# Altium integrated library Altium_WE-MAIA (rev24b).IntLib: 166 symbols (part 4 of 4)
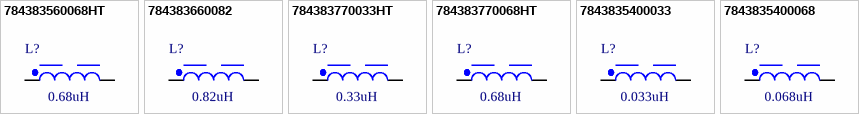
[diagram p7: symbols 784383560068HT to 7843835400068]

## 7843835400033
designator L?, comment 0.033uH
WE-MAIA SMT Power Inductor, size 4012, 0.033uH, 33.5A, 1.1mOhm; Manufacturer Part Number: 7843835400033; Manufacturer: Wurth Elektronik; Case/Size Code: 4012; Saturation Current @ 10%: 19A; Saturation Current @ 30%: 40A; Self Resonant Frequency: 682MHz; Category: Power Inductors; Match Code: WE-MAIA; ComponentLink1Description: Website Link; ComponentLink1URL: https://www.we-online.com/redexpert/article/7843835400033?ad; ComponentLink2Description: Datasheet Link; ComponentLink2URL: https://www.we-online.com/redexpert/spec/7843835400033?ad; Mount: Surface Mount; Operating Temperature Max: 125°C; Operating Temperature Min: -40°C; Packaging: Tape and Reel; Length: 4.1mm; Width: 4.1mm; Height: 1.3mm; Automotive: Yes; DC Resistance Max: 1.1mOhm; Inductance: 0.033uH; Rated Current: 33.5A
footprint WE-MAIA_4012
simulation model 4012_7843835400033_0.033u
pins: 1, 2

## 7843835400068
designator L?, comment 0.068uH
WE-MAIA SMT Power Inductor, size 4012, 0.068uH, 27A, 1.9mOhm; Manufacturer Part Number: 7843835400068; Manufacturer: Wurth Elektronik; Case/Size Code: 4012; Saturation Current @ 10%: 18A; Saturation Current @ 30%: 38A; Self Resonant Frequency: 374MHz; Category: Power Inductors; Match Code: WE-MAIA; ComponentLink1Description: Website Link; ComponentLink1URL: https://www.we-online.com/redexpert/article/7843835400068?ad; ComponentLink2Description: Datasheet Link; ComponentLink2URL: https://www.we-online.com/redexpert/spec/7843835400068?ad; Mount: Surface Mount; Operating Temperature Max: 125°C; Operating Temperature Min: -40°C; Packaging: Tape and Reel; Length: 4.1mm; Width: 4.1mm; Height: 1.3mm; Automotive: Yes; DC Resistance Max: 1.9mOhm; Inductance: 0.068uH; Rated Current: 27A
footprint WE-MAIA_4012
simulation model 4012_7843835400068_0.068u
pins: 1, 2